# Altium footprint library AUVic_PCB_Library_Relays.PcbLib: 1 footprints
Each footprint in its own frame and in the unit in brackets; x right, y up, seen from the top. Pads: shape width x height; smd on the part's side, far side on the other; paste and mask are expansions set on the pad; w line width, h text height; cw(c..) or ccw(c..) is an arc to the next point about the centre after c.
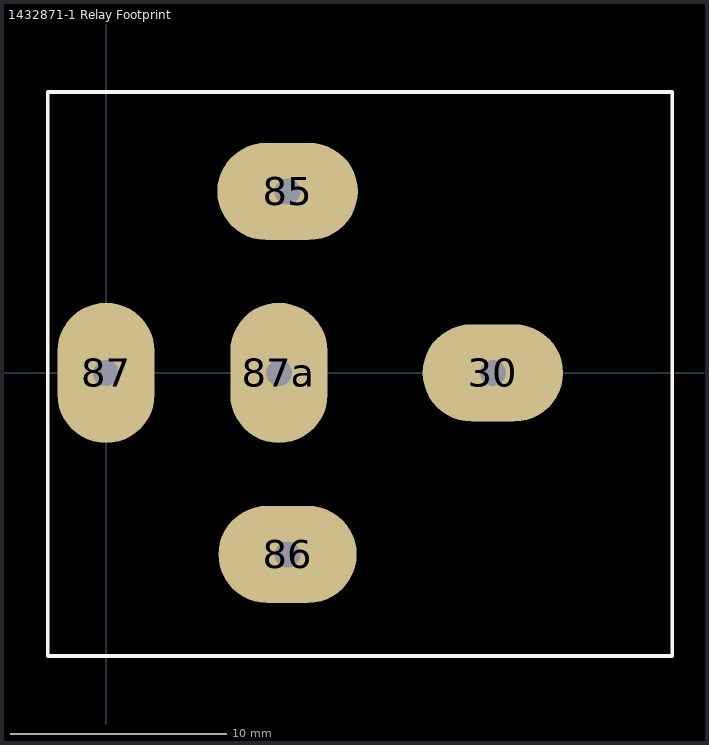
[diagram p0: the footprint, top view; thin cyan lines are the x and y axes]

## 1432871-1 Relay Footprint [mm]
pads (5):
  oval 6.5x4.5 hole 1.2 square: 30(17.9,0) 85(8.4,8.4)
  oval 6.4x4.5 hole 1.2 square: 86(8.4,-8.4)
  oval 4.5x6.5 hole 1.2 square: 87(0,0) 87a(8,0)
Top Overlay:
  lines w0.178: -2.7,-13.1 26.2,-13.1 26.2,13 -2.7,13 -2.7,-13.1
3D body "2251779_5-1393302-1.stp": height 10.55, standoff -25.35, extent -2.7,-13 26.2,12.9